# EAGLE library part TFA9842J (library Audio-Power-amlifier V.2.0)
The TFA9842J contains two identical audio power amplifiers. The TFA9842J can be used as two Single-Ended (SE) channels with a fixed gain of 26 dB or one Bridge-Tied Load (BTL) channel with a fixed gain of 32 dB. The TFA9842J comes in a 9-pin DIL-bent-SIL (DBS9P) power package. The TFA9842J is pin compatible with the TFA9841J and TFA9843J. The TFA9842J contains a unique protection circuit that is solely based on multiple temperature measurements inside the chip. This gives maximum output power for all supply voltages and load conditions with no unnecessary audio holes. Almost any supply voltage and load impedance combination can be made as long as thermal boundary conditions (number of channels used, external heatsink and ambient temperature) allow it.
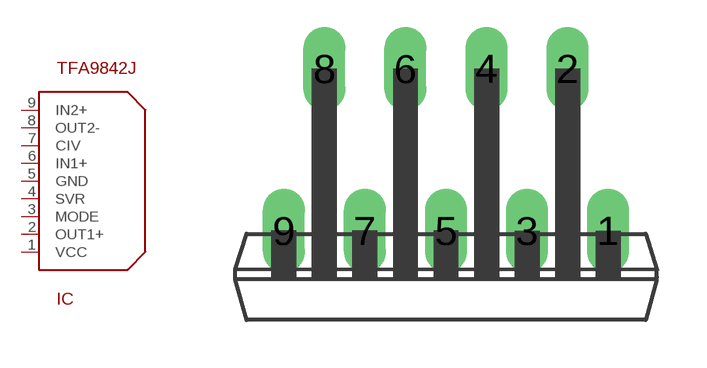
[diagram p76: symbol with the pads of SOT523-1; footprint SOT523-1]

Designator prefix IC

## TFA9842J  [SOT523-1]
1  VCC  pwr
2  OUT1+  out
3  MODE
4  SVR
5  GND  pwr
6  IN1+  in
7  CIV
8  OUT2-  out
9  IN2+  in

## Footprint SOT523-1 (pad centres in mm)
drill 0.8 long: 1 5.08,0; 2 3.81,5.08; 3 2.54,0; 4 1.27,5.08; 5 0,0; 6 -1.27,5.08; 7 -2.54,0; 8 -3.81,5.08; 9 -5.08,0